# Altium schematic symbol library GRC sch library.SchLib: 282 symbols (part 3 of 3)
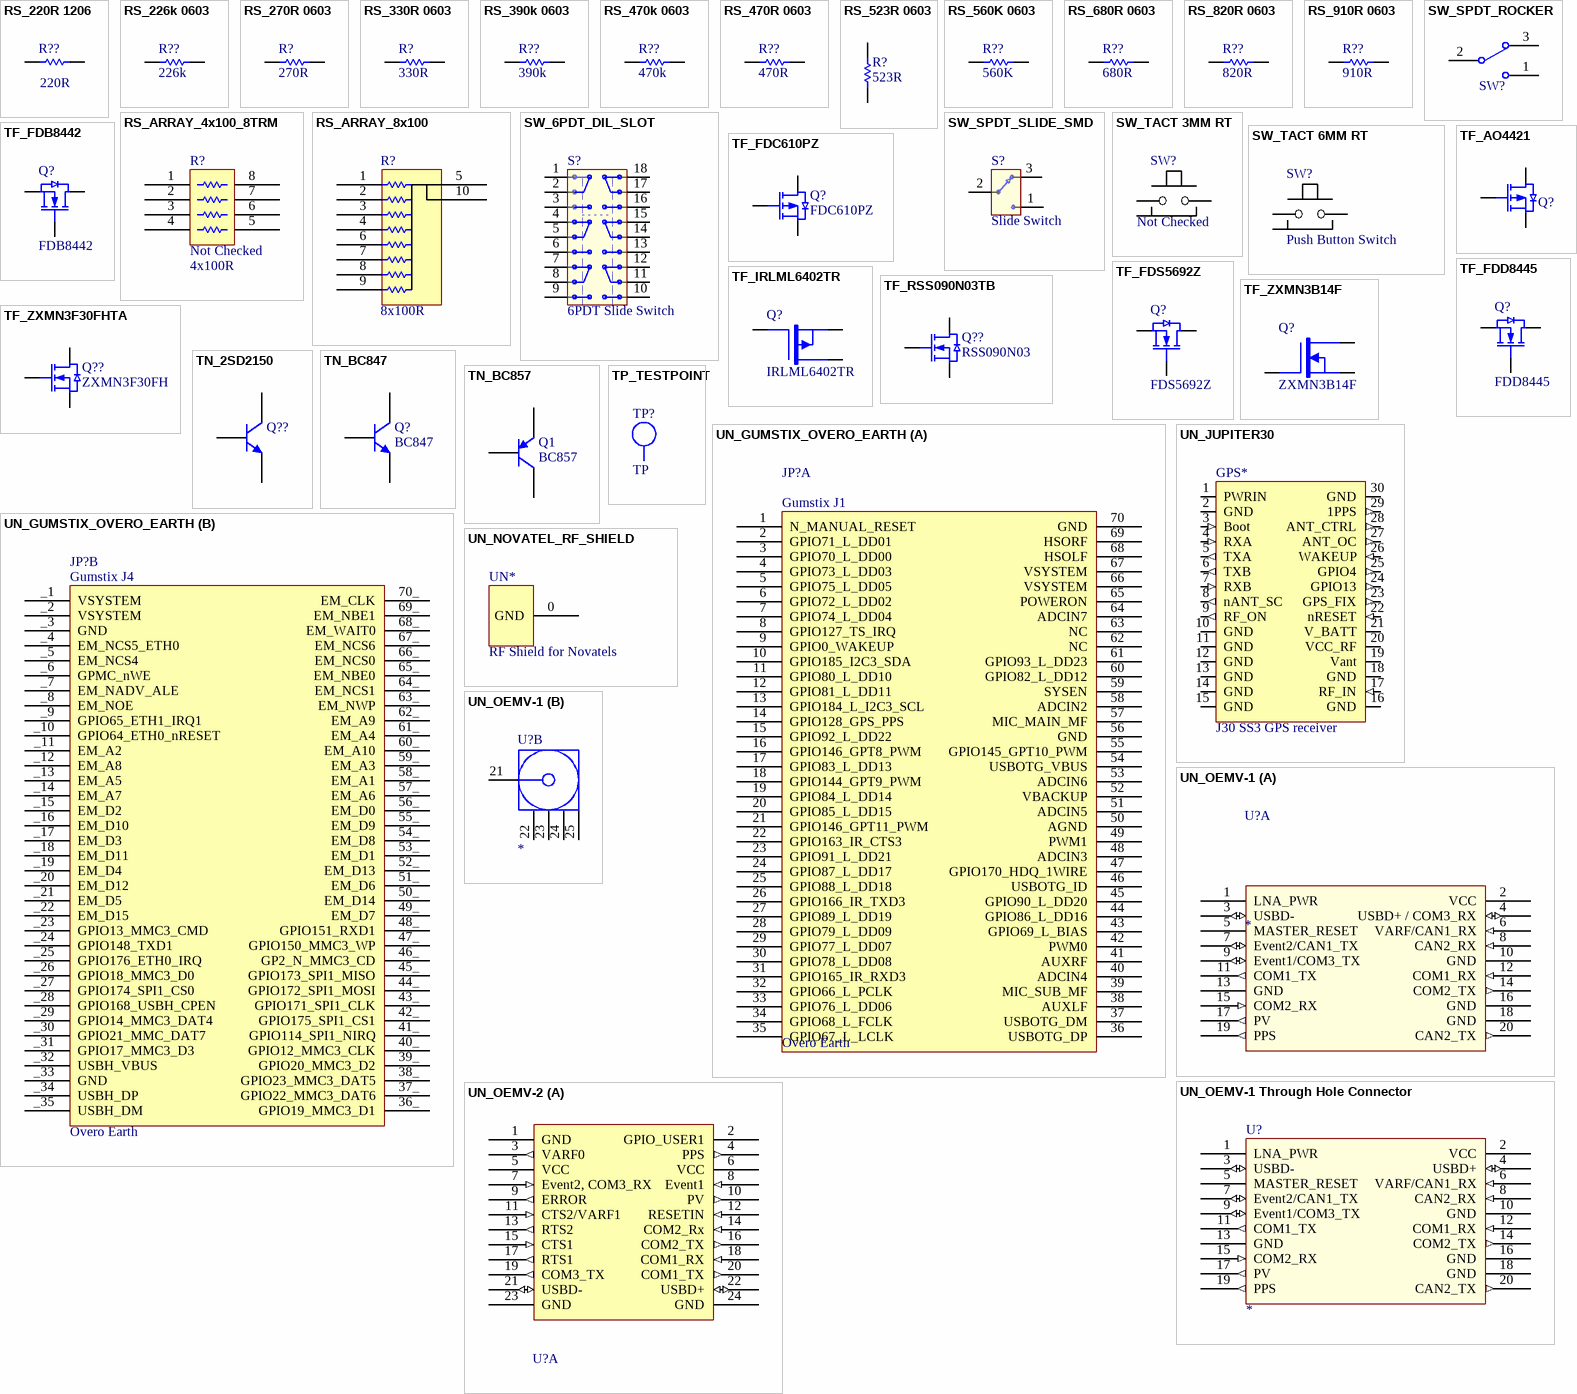
[diagram p11: symbols RS_220R 1206 to UN_OEMV-2]

## RS_910R 0603
designator R??, comment 910R
RES 910 OHM 1/10W 1% 0603 SMD; Manufacturer: ROHM; Manufacturer PN: MCR03EZPFX9100; Prototype: DigiKey RHM910HCT-ND; LatestRevisionDate: n/a; Value: 910R
simulation model RESISTOR (Resistor)
signal-integrity model Res
footprint 0603 (Non polarized 0603 footprint)
pins: 1, 2

## RS_ARRAY_4x100_8TRM
designator R?  value 4x100R  Verify: Not Checked  (hidden comment: *)
RES ARRAY 100 OHM 8TRM 4 RES SMD; Manufacturer: Yageo; Manufacturer P/N: TC164-JR-07100RL; Prototype: Digikey  TC164J-100CT-ND
footprint ARRAY_0603x4_NP (0603x4 array Non Polarized)
pins: 1, 2, 3, 4, 5, 6, 7, 8

## RS_ARRAY_8x100
designator R?  value 8x100R  (hidden comment: *)
R Array 8 x 100R; Manufacturer: Panasonic; Manufacturer P/N: EXB-A10P101J; Prototype: Digikey  U7101CT-ND
footprint G_PANASONIC_EXBA (0603 x 5 footprint for resistor networks)
pins: 1, 2, 3, 4, 5, 6, 7, 8, 9, 10

## SW_6PDT_DIL_SLOT
designator S?  value 6PDT Slide Switch
SWITCH SLIDE 6PDT 2POS WHITE T/H; Manufacturer: Tyco Electronics Alcoswitch; Manufacturer PN: ASF6204; Prototype: Digikey: 450-1565-ND
footprint G_6PDT_SW (18pin DIL, 100mil pitch, 300mil space between rows)
pins: 1 0, 2 1, 3 2, 4 3, 5 4, 6 5, 7 6, 8 7, 9 8, 10 9, 11 10, 12 11, 13 12, 14 13, 15 14, 16 15, 17 16, 18 17

## SW_SPDT_ROCKER
designator SW?, comment FDC610PZ  (value not drawn)
SWITCH ROCKER SPDT HORZ ACT RA; Manufacturer: C&K; Manufacturer PN: 7101J1ABE2; Prototype: Digikey CKN2004-ND; Verify: not checked; LatestRevisionDate: 24 Feb 09; Value: FDC610PZ
footprint 7101J1ABE2
pins: 1, 2, 3

## SW_SPDT_SLIDE_SMD
designator S?  value Slide Switch
SLIDE SWITCH SPDT J HOOK; Manufacturer: Copal Electronics Inc; Manufacturer PN: CAS-120TA; Prototype: Digikey: CAS120JCT-ND
footprint G_SW_CAS_SPDT_SMD (SMD Slide Switch CAS120A1 series)
pins: 1, 2, 3 2

## SW_TACT 3MM RT
designator SW?, comment Verify: Not Checked  (hidden comment: Push Button Switch)
SWITCH TACT RT ANG SPST SMD; Manufacturer: Omron; Manufacturer PN: B3U-3100P; Prototype: SW1023CT-ND; LatestRevisionDate: 22 Jun 08; Value: Push Button Switch
footprint PUSHBUTTON_B3U (Omron ultra small tactile switch)
pins: 1, 2, 3 GND

## SW_TACT 6MM RT
designator SW?, comment Push Button Switch
SWITCH TACT 6MM RT ANGLE 160GF; Manufacturer: E-Switch; Manufacturer PN: TL1105JAF160Q; Prototype: Digikey EG1863-ND; LatestRevisionDate: 2 Jun 08; Value: Push Button Switch
simulation model CAP (Capacitor)
signal-integrity model Cap
footprint E-SW TL1105JA (Thru-hole Push-Button E-Switch TL1105 series)
pins: 0, 1, 2

## TF_AO4421
designator Q?, comment AO4421  (value not drawn)
MOSFET P-CH -60V -6.2A 8-SOIC; Manufacturer: Alpha & Omega Semi; Prototype: Digikey 785-1025-1-ND; Verify: not checked; LatestRevisionDate: 26 Feb 09; Manufacturer PN: AO4421; Value: AO4421
footprint SOIC8_M (Footprint not found)
pins: 1 S, 2 S, 3 S, 4 G, 5 D, 6 D, 7 D, 8 D

## TF_FDB8442
designator Q?, comment FDB8442
MOSFET N-CH 40V 80A D2PAK; Manufacturer: Fairchild; Prototype: Digikey  FDB8442CT-ND; Verify: Not Checked; LatestRevisionDate: 25 June 09; Manufacturer PN: FDB8442; Value: FDB8442
footprint TO-263AB (D2-PAK, 3-Pads, Body 9.4x10.1mm (max), IPC Medium Density)
pins: 1 G, 3 S, 4 D

## TF_FDC610PZ
designator Q?, comment FDC610PZ
MOSFET P-CH 30V 4.9A SSOT-6; Manufacturer: Fairchild; Prototype: Digikey FDC610PZCT-ND; Verify: not checked; LatestRevisionDate: 3 Jun 08; Manufacturer PN: FDC610PZ; Value: FDC610PZ
footprint SOT23 (SOT-23; 3 Leads; Body 3.0 x 2.6 mm, inc. leads (LxW max))
footprint SSOT6
pins: 1 D, 2 D, 3 G, 4 S, 5 D, 6 D

## TF_FDD8445
designator Q?, comment FDD8445
MOSFET N-CH 40V 15A DPAK; Manufacturer: Fairchild; Prototype: Digikey FDD8445CT-ND; Verify: Not Checked; LatestRevisionDate: 24 Feb 09; Manufacturer PN: FDD8445; Value: FDD8445
footprint DPAK (D-PAK/TO-252-AA; 3 Leads (1 Cropped); Body 10.28 (inc. leads) x 6.7 mm (LxW max))
pins: 1 G, 3 S, 4 D

## TF_FDS5692Z
designator Q?, comment FDS5692Z
MOSFET N-CH 50V 8-SOIC; Manufacturer: Fairchild; Prototype: Digikey FDS5692ZCT-ND; LatestRevisionDate: 2 Mar 09; Manufacturer PN: FDS5692Z; Value: FDS5692Z
footprint SOIC8_M (8-Pin Small Outline Integrated Circuit Package (SOIC8), IPC Low Density)
pins: 1 S, 2 S, 3 S, 4 G, 5 D, 6 D, 7 D, 8 D

## TF_IRLML6402TR
designator Q?, comment IRLML6402TR
MOSFET P-CH 20V 3.7A SOT23; Manufacturer: International Rectifier; Manufacturer PN: IRLML6402TRPBF; Prototype: Digikey IRLML6402PBFCT-ND; LatestRevisionDate: 3 Jun 08; Value: IRLML6402TR
footprint SOT23 (SOT-23; 3 Leads; Body 3.0 x 2.6 mm, inc. leads (LxW max))
pins: 1 G, 2 S, 3 D

## TF_RSS090N03TB
designator Q??, comment RSS090N03
MOSFET N-CH 30V 9A 8-SOIC; Manufacturer: Rohm; Manufacturer PN: RSS090N03TB; Prototype: Digikey RSS090N03TBCT-ND; Verify: Not Checked; LatestRevisionDate: 20 Feb 08; Value: RSS090N03
footprint SOP8 (SOP, 8 leads)
pins: 1 S, 2 S, 3 S, 4 G, 5 D, 6 D, 7 D, 8 D

## TF_ZXMN3B14F
designator Q?, comment ZXMN3B14F
MOSFET N-CHAN 30V 3.5A SOT-23; Manufacturer: Zetex; Manufacturer PN: ZXMN3B14FTA; Prototype: Digikey ZXMN3B14FCT-ND; LatestRevisionDate: 3 Jun 08; Value: ZXMN3B14F
footprint SOT23 (SOT-23; 3 Leads; Body 3.0 x 2.6 mm, inc. leads (LxW max))
simulation model NMOS (MOSFET-N)
pins: 1 G, 2 S, 3 D

## TF_ZXMN3F30FHTA
designator Q??, comment ZXMN3F30FH
MOSFET N-CHAN 30V 3.5A SOT-23; Manufacturer: Zetex; Manufacturer PN: ZXMN3F30FHTA; Prototype: Digikey ZXMN3F30FHCT-ND; Verify: Not Checked; LatestRevisionDate: 23 Feb 08; Value: ZXMN3F30FH
footprint SOT23 (SOT-23; 3 Leads; Body 3.0 x 2.6 mm, inc. leads (LxW max))
pins: 1 G, 2 S, 3 D

## TN_2SD2150
designator Q??
TRANS NPN 20V 3A SOT-89; Manufacturer: ROHM; Manufacturer PN: 2SD2150T100S; Prototype: DigiKey 2SD2150T100SCT-ND; LatestRevisionDate: 29 May 08
simulation model NPN
signal-integrity model NPN
footprint SOT89 (SOT-89; Body 4.6 x 4.25 mm, inc. leads (LxW max))
pins: 1 B, 2 C, 3 E

## TN_BC847
designator Q?, comment BC847
TRANS NPN GP 100MA 45V SOT23; Manufacturer: NXP Semiconductors; Manufacturer PN: BC847C T/R; Prototype: Digikey 568-1636-2-ND; LatestRevisionDate: 2  Jun 08; Value: BC847
footprint SOT23 (SOT-23; 3 Leads; Body 3.0 x 2.6 mm, inc. leads (LxW max))
simulation model PNP
signal-integrity model PNP
pins: 1 B, 2 E, 3 C

## TN_BC857
designator Q1, comment BC857
TRANSISTOR PNP -45V -100MA SOT23; Manufacturer: STMicroelectronics; Manufacturer PN: BC857B; Prototype: Digikey 497-2526-1-ND; LatestRevisionDate: 2  Jun 08; Value: BC857
footprint SOT23 (SOT-23; 3 Leads; Body 3.0 x 2.6 mm, inc. leads (LxW max))
simulation model PNP
signal-integrity model PNP
pins: 1 B, 2 E, 3 C

## TP_TESTPOINT
designator TP?, comment TP  (no BOM)
Test-Point; LatestRevisionDate: 29 May 08; Manufacturer PN: *; Manufacturer: *; Prototype: *; Value: TP
footprint TEST_POINT_1MM (Test Point Pad)
pins: 1

## UN_GUMSTIX_OVERO_EARTH
designator JP?, comment Overo Earth
Gumstix Overo OMAP35xx Computer Module
part A pins: 1 N_MANUAL_RESET, 2 GPIO71_L_DD01, 3 GPIO70_L_DD00, 4 GPIO73_L_DD03, 5 GPIO75_L_DD05, 6 GPIO72_L_DD02, 7 GPIO74_L_DD04, 8 GPIO127_TS_IRQ, 9 GPIO0_WAKEUP, 10 GPIO185_I2C3_SDA, 11 GPIO80_L_DD10, 12 GPIO81_L_DD11, 13 GPIO184_L_I2C3_SCL, 14 GPIO128_GPS_PPS, 15 GPIO92_L_DD22, 16 GPIO146_GPT8_PWM, 17 GPIO83_L_DD13, 18 GPIO144_GPT9_PWM, 19 GPIO84_L_DD14, 20 GPIO85_L_DD15, 21 GPIO146_GPT11_PWM, 22 GPIO163_IR_CTS3, 23 GPIO91_L_DD21, 24 GPIO87_L_DD17, 25 GPIO88_L_DD18, 26 GPIO166_IR_TXD3, 27 GPIO89_L_DD19, 28 GPIO79_L_DD09, 29 GPIO77_L_DD07, 30 GPIO78_L_DD08, 31 GPIO165_IR_RXD3, 32 GPIO66_L_PCLK, 33 GPIO76_L_DD06, 34 GPIO68_L_FCLK, 35 GPIO67_L_LCLK, 36 USBOTG_DP, 37 USBOTG_DM, 38 AUXLF, 39 MIC_SUB_MF, 40 ADCIN4, 41 AUXRF, 42 PWM0, 43 GPIO69_L_BIAS, 44 GPIO86_L_DD16, 45 GPIO90_L_DD20, 46 USBOTG_ID, 47 GPIO170_HDQ_1WIRE, 48 ADCIN3, 49 PWM1, 50 AGND, 51 ADCIN5, 52 VBACKUP, 53 ADCIN6, 54 USBOTG_VBUS, 55 GPIO145_GPT10_PWM, 56 GND, 57 MIC_MAIN_MF, 58 ADCIN2, 59 SYSEN, 60 GPIO82_L_DD12, 61 GPIO93_L_DD23, 62 NC, 63 NC, 64 ADCIN7, 65 POWERON, 66 VSYSTEM, 67 VSYSTEM, 68 HSOLF, 69 HSORF, 70 GND
part B pins: 36_ GPIO19_MMC3_D1, 37_ GPIO22_MMC3_DAT6, 38_ GPIO23_MMC3_DAT5, 39_ GPIO20_MMC3_D2, 40_ GPIO12_MMC3_CLK, 41_ GPIO114_SPI1_NIRQ, 42_ GPIO175_SPI1_CS1, 43_ GPIO171_SPI1_CLK, 44_ GPIO172_SPI1_MOSI, 45_ GPIO173_SPI1_MISO, 46_ GP2_N_MMC3_CD, 47_ GPIO150_MMC3_WP, 48_ GPIO151_RXD1, 49_ EM_D7, 50_ EM_D14, 51_ EM_D6, 52_ EM_D13, 53_ EM_D1, 54_ EM_D8, 55_ EM_D9, 56_ EM_D0, 57_ EM_A6, 58_ EM_A1, 59_ EM_A3, 60_ EM_A10, 61_ EM_A4, 62_ EM_A9, 63_ EM_NWP, 64_ EM_NCS1, 65_ EM_NBE0, 66_ EM_NCS0, 67_ EM_NCS6, 68_ EM_WAIT0, 69_ EM_NBE1, 70_ EM_CLK, _1 VSYSTEM, _2 VSYSTEM, _3 GND, _4 EM_NCS5_ETH0, _5 EM_NCS4, _6 GPMC_nWE, _7 EM_NADV_ALE, _8 EM_NOE, _9 GPIO65_ETH1_IRQ1, _10 GPIO64_ETH0_nRESET, _11 EM_A2, _12 EM_A8, _13 EM_A5, _14 EM_A7, _15 EM_D2, _16 EM_D10, _17 EM_D3, _18 EM_D11, _19 EM_D4, _20 EM_D12, _21 EM_D5, _22 EM_D15, _23 GPIO13_MMC3_CMD, _24 GPIO148_TXD1, _25 GPIO176_ETH0_IRQ, _26 GPIO18_MMC3_D0, _27 GPIO174_SPI1_CS0, _28 GPIO168_USBH_CPEN, _29 GPIO14_MMC3_DAT4, _30 GPIO21_MMC_DAT7, _31 GPIO17_MMC3_D3, _32 USBH_VBUS, _33 GND, _34 USBH_DP, _35 USBH_DM
part A text: Gumstix J1
part B text: Gumstix J4

## UN_JUPITER30
designator GPS*, comment J30 SS3 GPS receiver
Jupiter 30 SS3 GPS receiver module; Manufacturer: Navman; Manufacturer PN: AA003025-G; Prototype: Navman Jupiter 30 AA003025-G; LastRevisionDate: 29 May 08; Value: J30 SS3 GPS receiver
footprint Jupiter30 (GPS SiRF3 receiver)
pins: 1 PWRIN (power), 2 GND (power), 3 Boot (in), 4 RXA (in), 5 TXA (out), 6 TXB (out), 7 RXB (in), 8 nANT_SC (out), 9 RF_ON (out), 10 GND (power), 11 GND (power), 12 GND (power), 13 GND (power), 14 GND (power), 15 GND (power), 16 GND (power), 17 RF_IN (in), 18 GND (power), 19 Vant (power), 20 VCC_RF (power), 21 V_BATT (power), 22 nRESET (in), 23 GPS_FIX (out), 24 GPIO13 (out), 25 GPIO4 (out), 26 WAKEUP (in), 27 ANT_OC (out), 28 ANT_CTRL (out), 29 1PPS (out), 30 GND (power)

## UN_NOVATEL_RF_SHIELD
designator UN*, comment RF Shield for Novatels
RF Shield for Novatel OEMV-1/2; Manufacturer: RF SHIELD MANUFACTURER; Verify: NOT CHECKED; Prototype: RF SHIELD BOX; Value: RF Shield for Novatels
footprint G_NOVATEL_RF_SHIELD (RF metallic shield (box type) for Novatel OEMV-2 boards)
pins: 0 GND

## UN_OEMV-1
designator U?
Novatel OEMV-1 GPS Receiver; Manufacturer: Samtec (pin header); Manufacturer P/N: SQW-110-01-L-D-VS (pin header); Manufacturer: Emerson (MCX); Manufacturer P/N: 133-3801-201 (MCX); Prototype: Digikey SAM1250-10-ND (pin header); Prototype: Digikey J612-ND (MCX); Manufacturer: Novatel; Manufacturer P/N: *
footprint G_OEMV-1_with_MCX
part A pins: 1 LNA_PWR, 2 VCC, 3 USBD- (io), 4 USBD+ / COM3_RX (io), 5 MASTER_RESET, 6 VARF/CAN1_RX (in), 7 Event2/CAN1_TX (io), 8 CAN2_RX (in), 9 Event1/COM3_TX (io), 10 GND, 11 COM1_TX (out), 12 COM1_RX (in), 13 GND, 14 COM2_TX (out), 15 COM2_RX (in), 16 GND, 17 PV (out), 18 GND, 19 PPS (out), 20 CAN2_TX (out)
part B pins: 21 Signal "Signal Pin", 22 GND (power), 23 GND (power), 24 GND (power), 25 GND (power)

## UN_OEMV-1 Through Hole Connector
designator U?
Novatel OEMV-1 GPS Receiver Through Hole; Manufacturer: Samtec (pin header); Manufacturer P/N: SQW-110-01-L-D  (pin header); Prototype: Digikey SAM1249-10-ND (pin header); Manufacturer: Novatel; Manufacturer P/N: *
footprint Superstar (Created by Ants May 08 for novatel baseboard)
pins: 1 LNA_PWR, 2 VCC, 3 USBD- (io), 4 USBD+ (io), 5 MASTER_RESET, 6 VARF/CAN1_RX (in), 7 Event2/CAN1_TX (io), 8 CAN2_RX (in), 9 Event1/COM3_TX (io), 10 GND, 11 COM1_TX (out), 12 COM1_RX (in), 13 GND, 14 COM2_TX (out), 15 COM2_RX (in), 16 GND, 17 PV (out), 18 GND, 19 PPS (out), 20 CAN2_TX (out)

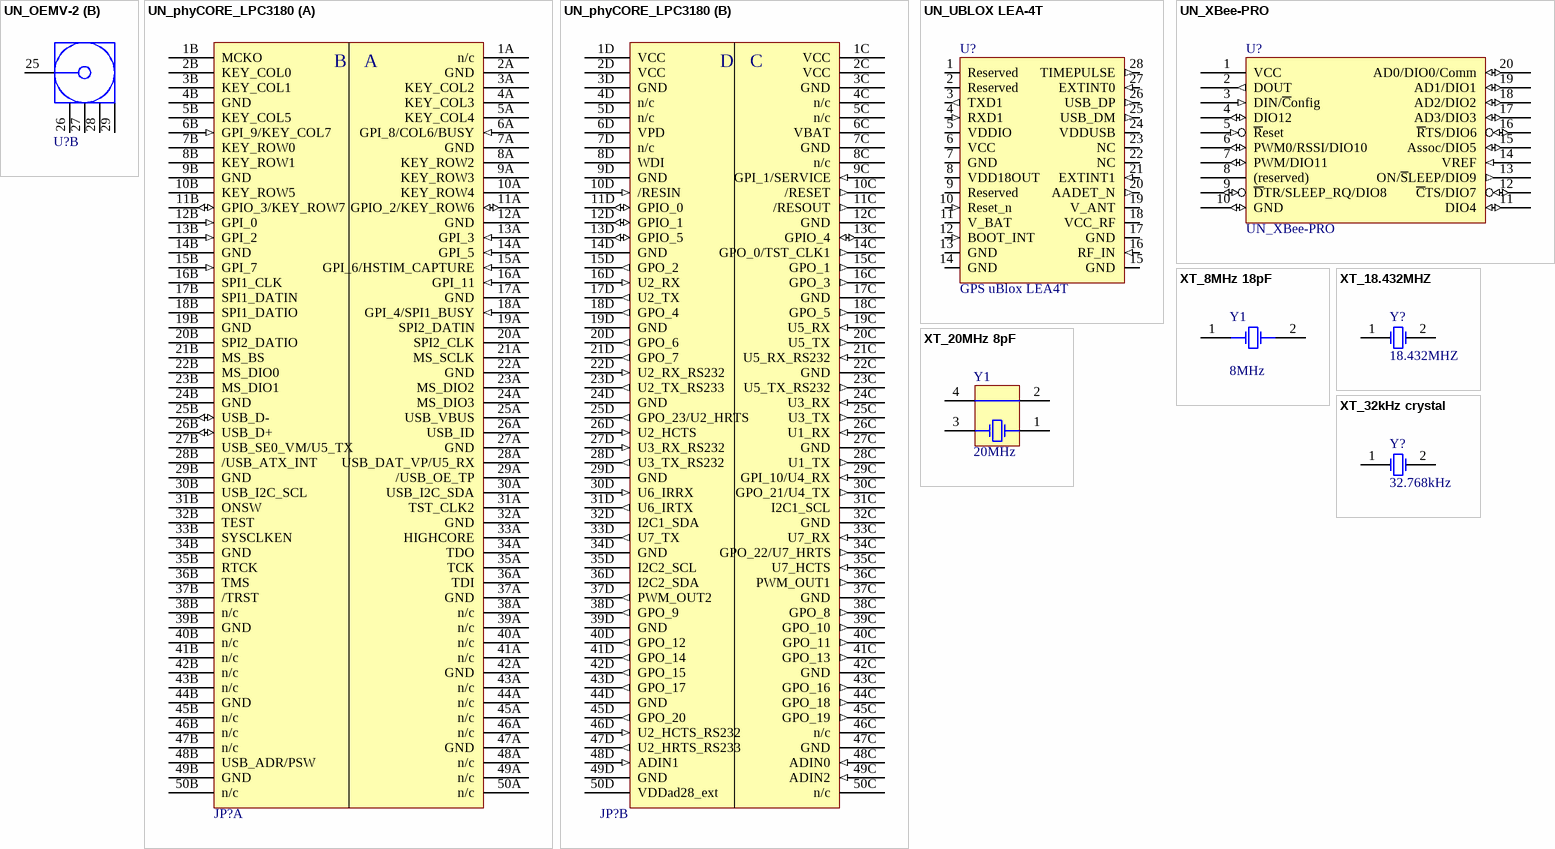
[diagram p9: symbols UN_OEMV-2 to XT_32kHz crystal]

## UN_OEMV-2
designator U?  (value not drawn)
Novatel OEMV-2 GPS receiver; Manufacturer: ???; Manufacturer PN: Samtec SQW-112-01-L-D-VS; Manufacturer PN: Emerson 135-3801-201; Prototype: Digikey (MMCX) J601-ND; Prototype: Digikey SAM1250-12-ND (header); LatestRevisionDate: 26 June 2008; Manufacturer PN: ???
footprint G_OEMV-2_WITH_MMCX
part A pins: 1 GND (power), 2 GPIO_USER1 (power), 3 VARF0 (out), 4 PPS (out), 5 VCC (power), 6 VCC (power), 7 Event2, COM3_RX (in), 8 Event1 (in), 9 ERROR (out), 10 PV (out), 11 CTS2/VARF1 (in), 12 RESETIN (in), 13 RTS2 (out), 14 COM2_Rx (in), 15 CTS1 (in), 16 COM2_TX (out), 17 RTS1 (out), 18 COM1_RX (in), 19 COM3_TX (out), 20 COM1_TX (out), 21 USBD- (io), 22 USBD+ (io), 23 GND (power), 24 GND (power)
part B pins: 25 Signal "Signal Pin", 26 GND (power), 27 GND (power), 28 GND (power), 29 GND (power)

## UN_phyCORE_LPC3180
designator JP?  (value not drawn)
Phytec LPC3180 PhyCore; Manufacturer: Phytec (module); Manufacturer P/N: phyCore_LPC3180 (Module); Manufacturer: Molex (connector); Manufacturer P/N: 55091-1075 (connector); Prototype: Phytec VB107
footprint G_PHYTEC_LPC3180
part A pins: 1A n/c, 1B MCKO, 2A GND, 2B KEY_COL0, 3A KEY_COL2, 3B KEY_COL1, 4A KEY_COL3, 4B GND, 5A KEY_COL4, 5B KEY_COL5, 6A GPI_8/COL6/BUSY (in), 6B GPI_9/KEY_COL7 (in), 7A GND, 7B KEY_ROW0, 8A KEY_ROW2, 8B KEY_ROW1, 9A KEY_ROW3, 9B GND, 10A KEY_ROW4, 10B KEY_ROW5, 11A GPIO_2/KEY_ROW6 (io), 11B GPIO_3/KEY_ROW7 (io), 12A GND, 12B GPI_0 (in), 13A GPI_3 (in), 13B GPI_2 (in), 14A GPI_5 (in), 14B GND, 15A GPI_6/HSTIM_CAPTURE (in), 15B GPI_7 (in), 16A GPI_11 (in), 16B SPI1_CLK, 17A GND, 17B SPI1_DATIN, 18A GPI_4/SPI1_BUSY (in), 18B SPI1_DATIO, 19A SPI2_DATIN, 19B GND, 20A SPI2_CLK, 20B SPI2_DATIO, 21A MS_SCLK, 21B MS_BS, 22A GND, 22B MS_DIO0, 23A MS_DIO2, 23B MS_DIO1, 24A MS_DIO3, 24B GND, 25A USB_VBUS, 25B USB_D- (io), 26A USB_ID, 26B USB_D+ (io), 27A GND, 27B USB_SE0_VM/U5_TX, 28A USB_DAT_VP/U5_RX, 28B /USB_ATX_INT, 29A /USB_OE_TP, 29B GND, 30A USB_I2C_SDA, 30B USB_I2C_SCL, 31A TST_CLK2, 31B ONSW, 32A GND, 32B TEST, 33A HIGHCORE, 33B SYSCLKEN, 34A TDO, 34B GND, 35A TCK, 35B RTCK, 36A TDI, 36B TMS, 37A GND, 37B /TRST, 38A n/c, 38B n/c, 39A n/c, 39B GND, 40A n/c, 40B n/c, 41A n/c, 41B n/c, 42A GND, 42B n/c, 43A n/c, 43B n/c, 44A n/c, 44B GND, 45A n/c, 45B n/c, 46A n/c, 46B n/c, 47A GND, 47B n/c, 48A n/c, 48B USB_ADR/PSW, 49A n/c, 49B GND, 50A n/c, 50B n/c
part B pins: 1C VCC, 1D VCC, 2C VCC, 2D VCC, 3C GND, 3D GND, 4C n/c, 4D n/c, 5C n/c, 5D n/c, 6C VBAT, 6D VPD, 7C GND, 7D n/c, 8C n/c, 8D WDI, 9C GPI_1/SERVICE (in), 9D GND, 10C /RESET (out), 10D /RESIN (in), 11C /RESOUT (out), 11D GPIO_0 (io), 12C GND, 12D GPIO_1 (io), 13C GPIO_4 (io), 13D GPIO_5 (io), 14C GPO_0/TST_CLK1 (out), 14D GND, 15C GPO_1 (out), 15D GPO_2 (out), 16C GPO_3 (out), 16D U2_RX (in), 17C GND, 17D U2_TX (out), 18C GPO_5 (out), 18D GPO_4 (out), 19C U5_RX (in), 19D GND, 20C U5_TX (out), 20D GPO_6 (out), 21C U5_RX_RS232 (in), 21D GPO_7 (out), 22C GND, 22D U2_RX_RS232 (in), 23C U5_TX_RS232 (out), 23D U2_TX_RS233 (out), 24C U3_RX (in), 24D GND, 25C U3_TX (out), 25D GPO_23/U2_HRTS (out), 26C U1_RX (in), 26D U2_HCTS (in), 27C GND, 27D U3_RX_RS232 (in), 28C U1_TX (out), 28D U3_TX_RS232 (out), 29C GPI_10/U4_RX (in), 29D GND, 30C GPO_21/U4_TX (out), 30D U6_IRRX (in), 31C I2C1_SCL, 31D U6_IRTX (out), 32C GND, 32D I2C1_SDA, 33C U7_RX (in), 33D U7_TX (out), 34C GPO_22/U7_HRTS (out), 34D GND, 35C U7_HCTS (in), 35D I2C2_SCL, 36C PWM_OUT1 (out), 36D I2C2_SDA, 37C GND, 37D PWM_OUT2 (out), 38C GPO_8 (out), 38D GPO_9 (out), 39C GPO_10 (out), 39D GND, 40C GPO_11 (out), 40D GPO_12 (out), 41C GPO_13 (out), 41D GPO_14 (out), 42C GND (power), 42D GPO_15 (out), 43C GPO_16 (out), 43D GPO_17 (out), 44C GPO_18 (out), 44D GND, 45C GPO_19 (out), 45D GPO_20 (out), 46C n/c, 46D U2_HCTS_RS232 (in), 47C GND, 47D U2_HRTS_RS233 (out), 48C ADIN0 (in), 48D ADIN1 (in), 49C ADIN2 (in), 49D GND, 50C n/c, 50D VDDad28_ext
part A text: B; A
part B text: D; C

## UN_UBLOX LEA-4T
designator U?, comment GPS uBlox LEA4T
Ublox GPS receiver module; Prototype: uBlox LEA 4T; Manufacturer: uBlox; Manufacturer PN: *; LastRevisionDate: 29 May 08; Value: GPS uBlox LEA4T
footprint UBLOX_LEA4T
pins: 1 Reserved, 2 Reserved, 3 TXD1 (out), 4 RXD1 (in), 5 VDDIO (power), 6 VCC (power), 7 GND (power), 8 VDD18OUT (power), 9 Reserved, 10 Reset_n (in), 11 V_BAT (power), 12 BOOT_INT (in), 13 GND (power), 14 GND (power), 15 GND (power), 16 RF_IN (in), 17 GND (power), 18 VCC_RF (power), 19 V_ANT (power), 20 AADET_N (out), 21 EXTINT1 (in), 22 NC, 23 NC, 24 VDDUSB (power), 25 USB_DM (out), 26 USB_DP (out), 27 EXTINT0 (in), 28 TIMEPULSE (out)

## UN_XBee-PRO
designator U?  value UN_XBee-PRO  (hidden comment: *)
UN_XBee-PRO 2.4GHZ whip antenna; XBEE Manufacturer PN: XBP24-BWIT-004; XBEE Manufacturer: Digi International/Maxstream; Socket Manufacturer PN: Samtec MMS-110-02-L-SV; XBEE Prototype: Digikey XBP24-BWIT-004-ND; Socket Prototype: Digikey SAM1238-10-ND (x2)
footprint G_XBEE_Pro
pins: 1 VCC (power), 2 DOUT (out), 3 DIN/~{C}onfig (in), 4 DIO12 (io), 5 ~{R}eset (in), 6 PWM0/RSSI/DIO10 (io), 7 PWM/DIO11 (io), 8 (reserved), 9 ~{D}TR/SLEEP_RQ/DIO8 (io), 10 GND (io), 11 DIO4 (io), 12 ~{C}TS/DIO7 (io), 13 ON/~{S}LEEP/DIO9 (out), 14 VREF (in), 15 Assoc/DIO5 (io), 16 ~{R}TS/DIO6 (io), 17 AD3/DIO3 (io), 18 AD2/DIO2 (io), 19 AD1/DIO1 (io), 20 AD0/DIO0/Comm (io)

## XT_8MHz 18pF
designator Y1, comment 8MHz
CRYSTAL 8.00 MHZ 18PF SMD; Manufacturer: Abracon Corporation; Manufacturer PN: ABLS-8.000MHZ-B2-T; Prototype: DigiKey 535-9089-1-ND; Value: 8MHz
footprint HC49/4H_SMX (Quartz Crystal, SM; Body 13.4 (inc. leads) x 4.9 mm (LxW max))
pins: 1 OSC1, 2 OSC2

## XT_18.432MHZ
designator Y?, comment 18.432MHZ
CRYSTAL 18.432MHZ LOW PRO SMD; Manufacturer PN: XL-1C-18.4320; Manufacturer: Connor-Winfield; Prototype: Digikey CW404-ND; LatestRevisionDate: 29 May 08; Value: 18.432MHZ
simulation model R38-32.768 (SUBCKT)
footprint ConWin_Xtal (ConWin Xtal FootPrint)
pins: 1 OSC1, 2 OSC2

## XT_20MHz 8pF
designator Y1, comment 20MHz
CRYSTAL 20.000 MHZ 8PF SMD; Manufacturer: ECS Inc; Manufacturer PN: ECS-200-8-36CKM; Prototype: DigiKey XC1556CT-ND; Value: 20MHz
footprint ECX-2236
pins: 1 OSC1, 2 COM, 3 OSC2, 4 COM

## XT_32kHz crystal
designator Y?, comment 32.768kHz
32kHz Watch crystal; Manufacturer PN: ABS07-32.768KHZ-9-T; Manufacturer: Abracon Corporation; Prototype: Digikey 535-9544-1-ND; LastRevisionDate: 29 May 08; Value: 32.768kHz
simulation model XTAL (SUBCKT)
footprint Xtal32_15 (Xtal 3.2 x 1.5mm footprint)
pins: 1 OSC1, 2 OSC2